# EAGLE library part MIC23050-SYML-TR (library MIC23050-SYML-TR)
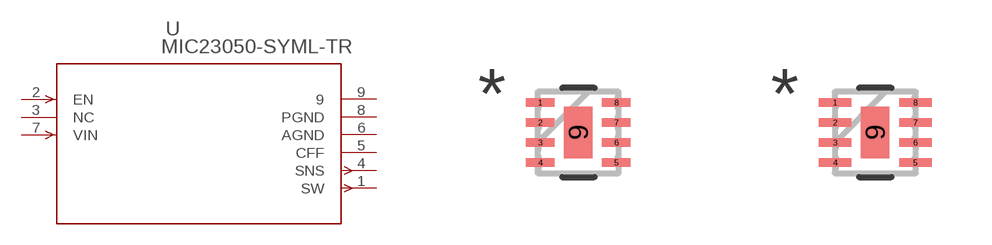
[diagram p0: symbol with the pads of MLF-8_ML; footprints MLF-8_ML, MLF-8_ML-M]

Designator prefix U

## MIC23050-SYML-TR (MANUFACTURER_PART_NUMBER: MIC23050SYMLTR; VENDOR: Microchip)  [MLF-8_ML]
1  SW  out
2  EN  in
3  NC  nc
4  SNS  out
5  CFF  pas
6  AGND  pwr
7  VIN  in
8  PGND  pwr
9  9  pas

## MIC23050-SYML-TRMLF-8_ML-M (MANUFACTURER_PART_NUMBER: MIC23050SYMLTR; VENDOR: Microchip)  [MLF-8_ML-M]
Pads as for MLF-8_ML

## MIC23050-SYML-TRMLF-8_ML-L (MANUFACTURER_PART_NUMBER: MIC23050SYMLTR; VENDOR: Microchip)  [MLF-8_ML-L]
Pads as for MLF-8_ML

## Footprint MLF-8_ML (pad centres in mm)
smd 0.711 x 0.203: 1 -0.953,0.75; 2 -0.953,0.25; 3 -0.953,-0.25; 4 -0.953,-0.75; 5 0.953,-0.75; 6 0.953,-0.25; 7 0.953,0.25; 8 0.953,0.75
smd 0.711 x 1.295: 9 0,0

## Footprint MLF-8_ML-M (pad centres in mm)
smd 0.813 x 0.203: 1 -1.003,0.75; 2 -1.003,0.25; 3 -1.003,-0.25; 4 -1.003,-0.75; 5 1.003,-0.75; 6 1.003,-0.25; 7 1.003,0.25; 8 1.003,0.75
smd 0.711 x 1.295: 9 0,0

## Footprint MLF-8_ML-L (pad centres in mm)
smd 0.61 x 0.203: 1 -0.902,0.75; 2 -0.902,0.25; 3 -0.902,-0.25; 4 -0.902,-0.75; 5 0.902,-0.75; 6 0.902,-0.25; 7 0.902,0.25; 8 0.902,0.75
smd 0.711 x 1.295: 9 0,0